# EAGLE library part FEEDER_STANDARD_CP2102_MLP28 (library kxnStandard_interface)
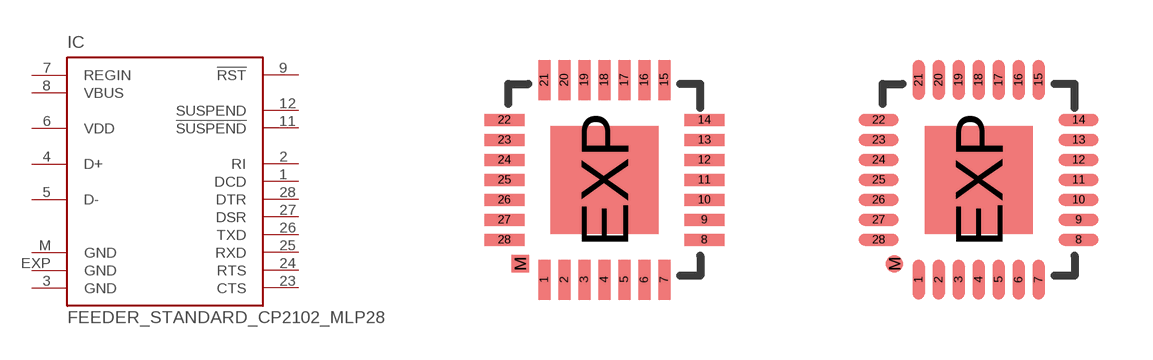
[diagram p0: symbol with the pads of KXN_MLP28; footprints KXN_MLP28, KXN_MLP28_ROUND]

Designator prefix IC

## FEEDER_STANDARD_CP2102_MLP28CP2102_N9_12_2019 (CC_SHOP: CongCo)  [KXN_MLP28]
1  DCD  in
2  RI  in
3  GND  pwr
4  D+
5  D-
6  VDD  pwr
7  REGIN  pas
8  VBUS  in
9  !RST
11  !SUSPEND  out
12  SUSPEND  out
23  CTS  in
24  RTS  out
25  RXD  in
26  TXD  out
27  DSR  in
28  DTR  out
EXP  GND  pwr
M  GND  pwr

## FEEDER_STANDARD_CP2102_MLP28CP2102_ROUND_PIN (CC_SHOP: CongCo)  [KXN_MLP28_ROUND]
Pads as for KXN_MLP28

## Footprint KXN_MLP28 (pad centres in mm)
smd 0.3 x 1: 1 -1.5,-2.5; 2 -1,-2.5; 3 -0.5,-2.5; 4 0,-2.5; 5 0.5,-2.5; 6 1,-2.5; 7 1.5,-2.5; 15 1.5,2.5; 16 1,2.5; 17 0.5,2.5; 18 0,2.5; 19 -0.5,2.5; 20 -1,2.5; 21 -1.5,2.5
smd 1 x 0.3: 8 2.5,-1.5; 9 2.5,-1; 10 2.5,-0.5; 11 2.5,0; 12 2.5,0.5; 13 2.5,1; 14 2.5,1.5; 22 -2.5,1.5; 23 -2.5,1; 24 -2.5,0.5; 25 -2.5,0; 26 -2.5,-0.5; 27 -2.5,-1; 28 -2.5,-1.5
smd 2.7 x 2.7: EXP 0,0
smd 0.435 x 0.435: M -2.103,-2.103

## Footprint KXN_MLP28_ROUND (pad centres in mm)
smd 0.3 x 1: 1 -1.5,-2.5; 2 -1,-2.5; 3 -0.5,-2.5; 4 0,-2.5; 5 0.5,-2.5; 6 1,-2.5; 7 1.5,-2.5; 15 1.5,2.5; 16 1,2.5; 17 0.5,2.5; 18 0,2.5; 19 -0.5,2.5; 20 -1,2.5; 21 -1.5,2.5
smd 1 x 0.3: 8 2.5,-1.5; 9 2.5,-1; 10 2.5,-0.5; 11 2.5,0; 12 2.5,0.5; 13 2.5,1; 14 2.5,1.5; 22 -2.5,1.5; 23 -2.5,1; 24 -2.5,0.5; 25 -2.5,0; 26 -2.5,-0.5; 27 -2.5,-1; 28 -2.5,-1.5
smd 2.7 x 2.7: EXP 0,0
smd 0.435 x 0.435: M -2.103,-2.103